# Altium schematic symbol library D_TVS_ARRAY_BIDIR.SchLib: 1 symbol
Pins are listed as number, name and electrical type; pins without a type are passive.

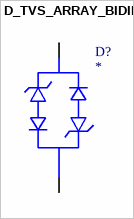
[diagram p0: symbol D_TVS_ARRAY_BIDIR]

## D_TVS_ARRAY_BIDIR
designator D?
pins: 1, 2